# Altium schematic symbol library kmilo17pet-LT_OpAmp_LT2000.SchLib: 1710 symbols (part 38 of 75)
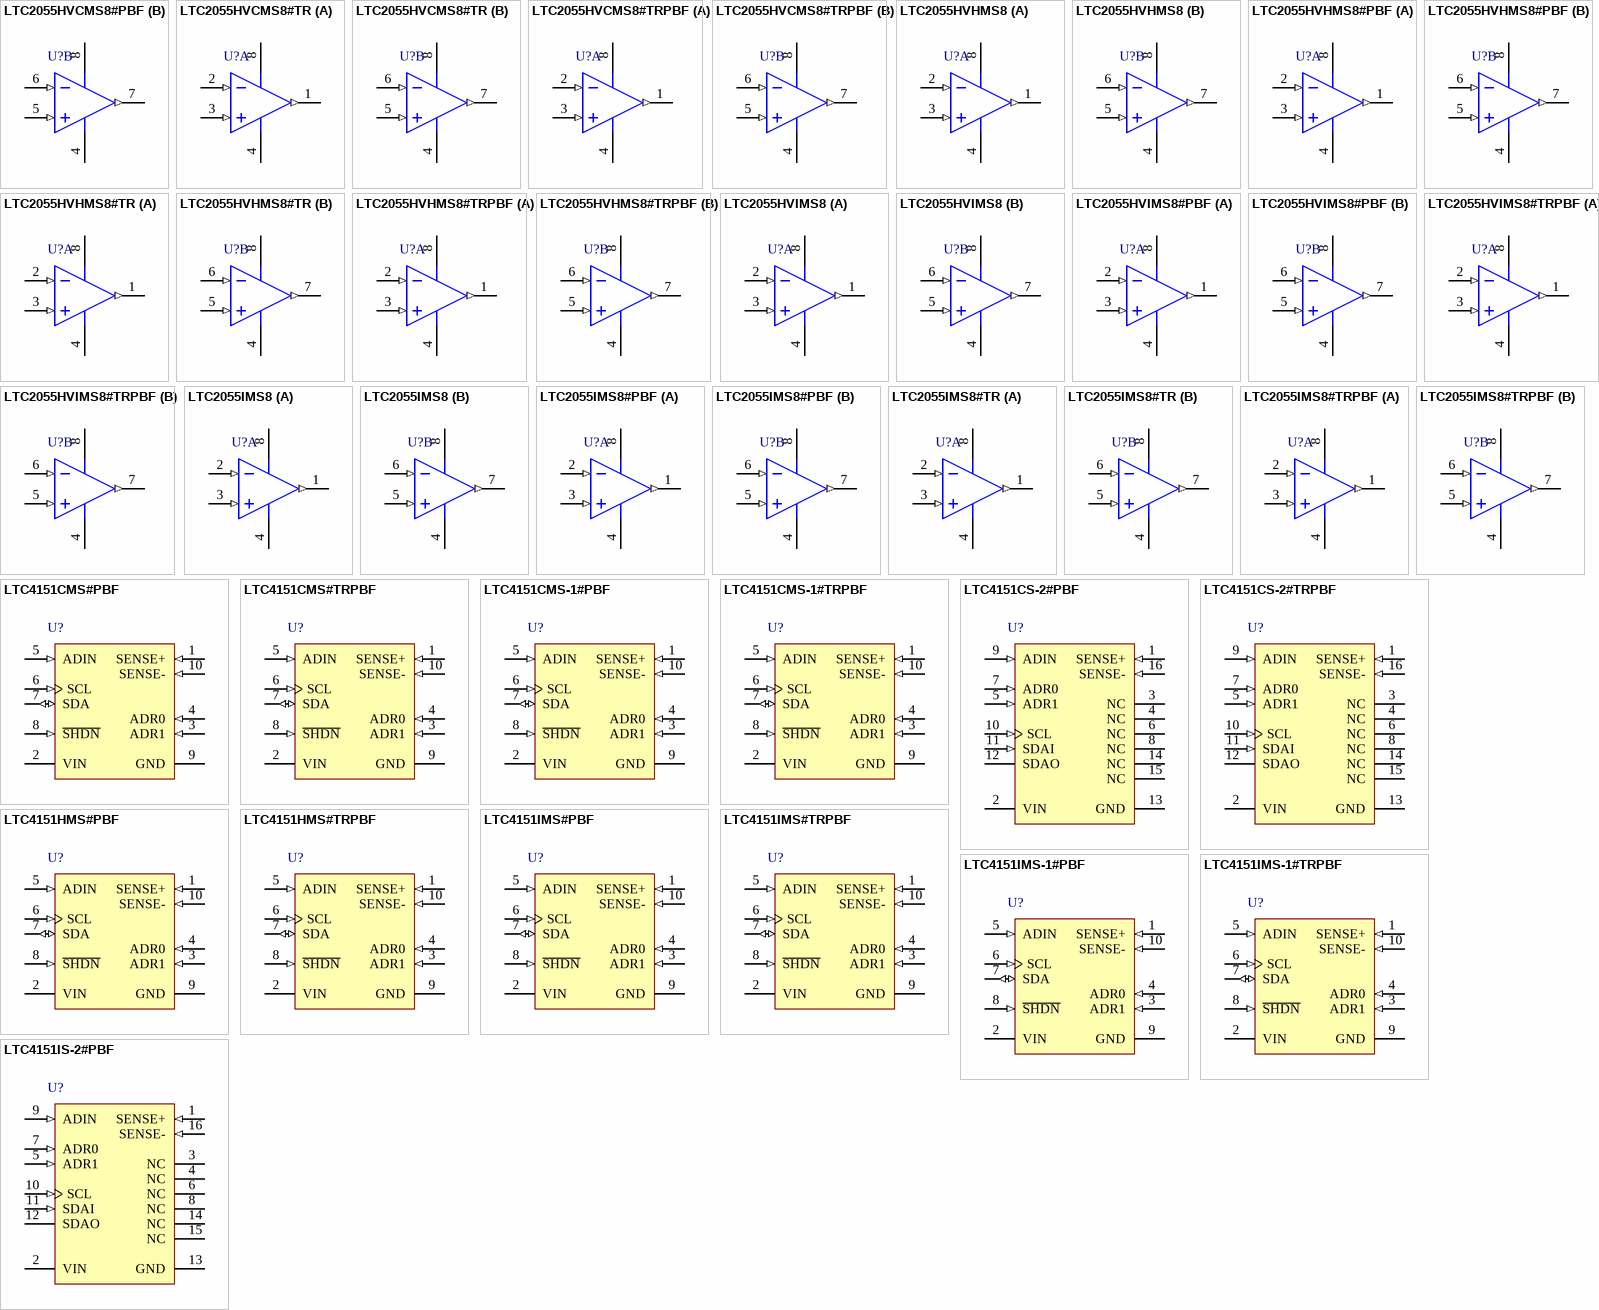
[diagram p117: symbols LTC2055HVCMS8#PBF to LTC4151IS-2#PBF]

## LTC2055IMS8
designator U?
Dual Channel, Micropower Zero-Drift Operational Amplifier, 0.5 MHz Typical GBW, 0.5 V/us Typical SR, 2.7 to 6 V, 8-Pin SOP (MS8-8), Industrial; Linear Technology Part Number: LTC2055; Manufacturer: Linear Technology; PartNumber: LTC2055IMS8; Channels (#): 2; GBW (MHz) Typical: 0.5; Is (mA) Typical: 0.135; Vos (mV) Typical: 0.0005; Vs Max (V): 6; Vs Min (V): 2.7; DatasheetVersion: Rev. C; PackageVersion: Rev G; PackageReference: LT-MS8-8; PackageDescription: 8-Lead Plastic Small Outline, Body 3.9 x 4.9 mm, Pitch 1.27 mm; Supplier 1: Digi-Key; Supplier Part Number 1: LTC2055IMS8-ND; SR (V/us) Typical: 0.5; Type: ZD; Mounting Technology: Surface Mount; ComponentLink1Description: Manufacturer URL; ComponentLink1URL: http://www.linear.com/; ComponentLink2Description: Datasheet; ComponentLink2URL: http://cds.linear.com/docs/en/datasheet/20545fc.pdf; ComponentLink3Description: Package Specification; ComponentLink3URL: http://cds.linear.com/docs/en/packaging/05081610_G_SO8.pdf
footprint LT-MS8-8_N (SOP, 8-Leads, Body 3x3mm, Pitch 0.65mm, IPC Medium Density)
footprint LT-MS8-8_L (SOP, 8-Leads, Body 3x3mm, Pitch 0.65mm, IPC High Density)
footprint LT-MS8-8_M (SOP, 8-Leads, Body 3x3mm, Pitch 0.65mm, IPC Low Density)
pins on every part: 4 V- (power), 8 V+ (power)
part A pins: 1 OUT A (out), 2 -IN A (in), 3 +IN A (in)
part B pins: 5 +IN B (in), 6 -IN B (in), 7 OUT B (out)

## LTC2055IMS8#PBF
designator U?
Dual Channel, Micropower Zero-Drift Operational Amplifier, 0.5 MHz Typical GBW, 0.5 V/us Typical SR, 2.7 to 6 V, 8-Pin SOP (MS8-8), Industrial, Pb-Free; Linear Technology Part Number: LTC2055; Manufacturer: Linear Technology; PartNumber: LTC2055IMS8#PBF; Channels (#): 2; GBW (MHz) Typical: 0.5; Is (mA) Typical: 0.135; Vos (mV) Typical: 0.0005; Vs Max (V): 6; Vs Min (V): 2.7; DatasheetVersion: Rev. C; PackageVersion: Rev G; PackageReference: LT-MS8-8; PackageDescription: 8-Lead Plastic Small Outline, Body 3.9 x 4.9 mm, Pitch 1.27 mm; Supplier 1: Digi-Key; Supplier Part Number 1: LTC2055IMS8#PBF-ND; Supplier 2: Farnell; Supplier Part Number 2: 2294739; Supplier 3: Newark; Supplier Part Number 3: 56M4804; RoHS: Pb-Free; SR (V/us) Typical: 0.5; Type: ZD; Mounting Technology: Surface Mount; ComponentLink1Description: Manufacturer URL; ComponentLink1URL: http://www.linear.com/; ComponentLink2Description: Datasheet; ComponentLink2URL: http://cds.linear.com/docs/en/datasheet/20545fc.pdf; ComponentLink3Description: Package Specification; ComponentLink3URL: http://cds.linear.com/docs/en/packaging/05081610_G_SO8.pdf
footprint LT-MS8-8_N (SOP, 8-Leads, Body 3x3mm, Pitch 0.65mm, IPC Medium Density)
footprint LT-MS8-8_L (SOP, 8-Leads, Body 3x3mm, Pitch 0.65mm, IPC High Density)
footprint LT-MS8-8_M (SOP, 8-Leads, Body 3x3mm, Pitch 0.65mm, IPC Low Density)
pins on every part: 4 V- (power), 8 V+ (power)
part A pins: 1 OUT A (out), 2 -IN A (in), 3 +IN A (in)
part B pins: 5 +IN B (in), 6 -IN B (in), 7 OUT B (out)

## LTC2055IMS8#TR
designator U?
Dual Channel, Micropower Zero-Drift Operational Amplifier, 0.5 MHz Typical GBW, 0.5 V/us Typical SR, 2.7 to 6 V, 8-Pin SOP (MS8-8), Industrial, Reel; Linear Technology Part Number: LTC2055; Manufacturer: Linear Technology; PartNumber: LTC2055IMS8#TR; Channels (#): 2; GBW (MHz) Typical: 0.5; Is (mA) Typical: 0.135; Vos (mV) Typical: 0.0005; Vs Max (V): 6; Vs Min (V): 2.7; DatasheetVersion: Rev. C; PackageVersion: Rev G; PackageReference: LT-MS8-8; PackageDescription: 8-Lead Plastic Small Outline, Body 3.9 x 4.9 mm, Pitch 1.27 mm; Supplier 1: Digi-Key; Supplier Part Number 1: LTC2055IMS8#TR-ND; Packing: Reel; SR (V/us) Typical: 0.5; Type: ZD; Mounting Technology: Surface Mount; ComponentLink1Description: Manufacturer URL; ComponentLink1URL: http://www.linear.com/; ComponentLink2Description: Datasheet; ComponentLink2URL: http://cds.linear.com/docs/en/datasheet/20545fc.pdf; ComponentLink3Description: Package Specification; ComponentLink3URL: http://cds.linear.com/docs/en/packaging/05081610_G_SO8.pdf
footprint LT-MS8-8_N (SOP, 8-Leads, Body 3x3mm, Pitch 0.65mm, IPC Medium Density)
footprint LT-MS8-8_L (SOP, 8-Leads, Body 3x3mm, Pitch 0.65mm, IPC High Density)
footprint LT-MS8-8_M (SOP, 8-Leads, Body 3x3mm, Pitch 0.65mm, IPC Low Density)
pins on every part: 4 V- (power), 8 V+ (power)
part A pins: 1 OUT A (out), 2 -IN A (in), 3 +IN A (in)
part B pins: 5 +IN B (in), 6 -IN B (in), 7 OUT B (out)

## LTC2055IMS8#TRPBF
designator U?
Dual Channel, Micropower Zero-Drift Operational Amplifier, 0.5 MHz Typical GBW, 0.5 V/us Typical SR, 2.7 to 6 V, 8-Pin SOP (MS8-8), Industrial, Pb-Free, Reel; Linear Technology Part Number: LTC2055; Manufacturer: Linear Technology; PartNumber: LTC2055IMS8#TRPBF; Channels (#): 2; GBW (MHz) Typical: 0.5; Is (mA) Typical: 0.135; Vos (mV) Typical: 0.0005; Vs Max (V): 6; Vs Min (V): 2.7; DatasheetVersion: Rev. C; PackageVersion: Rev G; PackageReference: LT-MS8-8; PackageDescription: 8-Lead Plastic Small Outline, Body 3.9 x 4.9 mm, Pitch 1.27 mm; Supplier 1: Digi-Key; Supplier Part Number 1: LTC2055IMS8#TRPBF-ND; Packing: Reel; RoHS: Pb-Free; SR (V/us) Typical: 0.5; Type: ZD; Mounting Technology: Surface Mount; ComponentLink1Description: Manufacturer URL; ComponentLink1URL: http://www.linear.com/; ComponentLink2Description: Datasheet; ComponentLink2URL: http://cds.linear.com/docs/en/datasheet/20545fc.pdf; ComponentLink3Description: Package Specification; ComponentLink3URL: http://cds.linear.com/docs/en/packaging/05081610_G_SO8.pdf
footprint LT-MS8-8_N (SOP, 8-Leads, Body 3x3mm, Pitch 0.65mm, IPC Medium Density)
footprint LT-MS8-8_L (SOP, 8-Leads, Body 3x3mm, Pitch 0.65mm, IPC High Density)
footprint LT-MS8-8_M (SOP, 8-Leads, Body 3x3mm, Pitch 0.65mm, IPC Low Density)
pins on every part: 4 V- (power), 8 V+ (power)
part A pins: 1 OUT A (out), 2 -IN A (in), 3 +IN A (in)
part B pins: 5 +IN B (in), 6 -IN B (in), 7 OUT B (out)

## LTC4151CMS#PBF
designator U?
Single Channel, High Voltage I2C Current and Voltage Monitor Operational Amplifier, 7 to 80 V, 10-Pin SOP (MS-10), Commercial, Pb-Free; Linear Technology Part Number: LTC4151; Manufacturer: Linear Technology; PartNumber: LTC4151CMS#PBF; Channels (#): 1; Is (mA) Typical: 1.2; Vs Max (V): 80; Vs Min (V): 7; DatasheetVersion: Rev. D; PackageVersion: Rev E; PackageReference: LT-MS-10; PackageDescription: 10-Lead Plastic MSOP, Body 3 x 3 mm, Pitch 0.5 mm; Supplier 1: Digi-Key; Supplier Part Number 1: LTC4151CMS#PBF-ND; Supplier 2: Farnell; Supplier Part Number 2: 2295458; Supplier 3: Newark; Supplier Part Number 3: 79M3584; RoHS: Pb-Free; Type: CSA; Mounting Technology: Surface Mount; ComponentLink1Description: Manufacturer URL; ComponentLink1URL: http://www.linear.com/; ComponentLink2Description: Datasheet; ComponentLink2URL: http://cds.linear.com/docs/en/datasheet/4151fd.pdf; ComponentLink3Description: Package Specification; ComponentLink3URL: http://cds.linear.com/docs/en/packaging/MSOP_10_05-08-1661.pdf
footprint LT-MS-10_N (SOP, 10-Leads, Body 3x3mm, Pitch 0.50mm, IPC Medium Density)
footprint LT-MS-10_L (SOP, 10-Leads, Body 3x3mm, Pitch 0.50mm, IPC High Density)
footprint LT-MS-10_M (SOP, 10-Leads, Body 3x3mm, Pitch 0.50mm, IPC Low Density)
pins: 1 SENSE+ (in) "Kelvin Sense of the VIN Pin.", 2 VIN (power) "Supply Voltage Input. Accepts 7V to 80V. The voltage at this pin is monitored by the onboard ADC with a fullscale input range of 102.4V. SENSE+ must be connected  to VIN for proper ADC readout.", 3 ADR1 (in) "I2C Device Address Inputs. Connecting  ADR1 and ADR0 to VIN, GND or leaving the pins open  configures one of nine possible addresses.", 4 ADR0 (in) "I2C Device Address Inputs. Connecting  ADR1 and ADR0 to VIN, GND or leaving the pins open  configures one of nine possible addresses.", 5 ADIN (in) "ADC Input. The onboard ADC measures voltage  range between 0V and 2.048V. Tie to GND if unused.", 6 SCL (in) "I2C Bus Clock Input. Data is shifted in and out at  the SDA pin on rising edges of SCL. This pin is driven  by an open-collector output from a master controller. An  external pull-up resistor or current source is required (See Datasheet)", 7 SDA (io) "I2C Bus Data Input/Output. Used  for shifting in address, command or data bits and sending  out data. An external pull-up resistor or current source  is required and can be placed between SDA and VIN.   The voltage at SDA is (See Datasheet)", 8 ~{SHDN} (in) "Shutdown Input. Internally pulled  up to 6.3V. Pull this pin below 1V to force the LTC4151  into shutdown mode. Leave this pin open if unused.", 9 GND (power) "Device Ground.", 10 SENSE- (in) "High Side Current Sense Input. Connect an  external sense resistor between SENSE+  and SENSE-.  The differential voltage between SENSE+ and SENSE-  is  monitored by the onboard ADC with a full-scale sense  voltage of 81.92mV."

## LTC4151CMS#TRPBF
designator U?
Single Channel, High Voltage I2C Current and Voltage Monitor Operational Amplifier, 7 to 80 V, 10-Pin SOP (MS-10), Commercial, Pb-Free, Reel; Linear Technology Part Number: LTC4151; Manufacturer: Linear Technology; PartNumber: LTC4151CMS#TRPBF; Channels (#): 1; Is (mA) Typical: 1.2; Vs Max (V): 80; Vs Min (V): 7; DatasheetVersion: Rev. D; PackageVersion: Rev E; PackageReference: LT-MS-10; PackageDescription: 10-Lead Plastic MSOP, Body 3 x 3 mm, Pitch 0.5 mm; Supplier 1: Digi-Key; Supplier Part Number 1: LTC4151CMS#TRPBF-ND; Packing: Reel; RoHS: Pb-Free; Type: CSA; Mounting Technology: Surface Mount; ComponentLink1Description: Manufacturer URL; ComponentLink1URL: http://www.linear.com/; ComponentLink2Description: Datasheet; ComponentLink2URL: http://cds.linear.com/docs/en/datasheet/4151fd.pdf; ComponentLink3Description: Package Specification; ComponentLink3URL: http://cds.linear.com/docs/en/packaging/MSOP_10_05-08-1661.pdf
footprint LT-MS-10_N (SOP, 10-Leads, Body 3x3mm, Pitch 0.50mm, IPC Medium Density)
footprint LT-MS-10_L (SOP, 10-Leads, Body 3x3mm, Pitch 0.50mm, IPC High Density)
footprint LT-MS-10_M (SOP, 10-Leads, Body 3x3mm, Pitch 0.50mm, IPC Low Density)
pins: 1 SENSE+ (in) "Kelvin Sense of the VIN Pin.", 2 VIN (power) "Supply Voltage Input. Accepts 7V to 80V. The voltage at this pin is monitored by the onboard ADC with a fullscale input range of 102.4V. SENSE+ must be connected  to VIN for proper ADC readout.", 3 ADR1 (in) "I2C Device Address Inputs. Connecting  ADR1 and ADR0 to VIN, GND or leaving the pins open  configures one of nine possible addresses.", 4 ADR0 (in) "I2C Device Address Inputs. Connecting  ADR1 and ADR0 to VIN, GND or leaving the pins open  configures one of nine possible addresses.", 5 ADIN (in) "ADC Input. The onboard ADC measures voltage  range between 0V and 2.048V. Tie to GND if unused.", 6 SCL (in) "I2C Bus Clock Input. Data is shifted in and out at  the SDA pin on rising edges of SCL. This pin is driven  by an open-collector output from a master controller. An  external pull-up resistor or current source is required (See Datasheet)", 7 SDA (io) "I2C Bus Data Input/Output. Used  for shifting in address, command or data bits and sending  out data. An external pull-up resistor or current source  is required and can be placed between SDA and VIN.   The voltage at SDA is (See Datasheet)", 8 ~{SHDN} (in) "Shutdown Input. Internally pulled  up to 6.3V. Pull this pin below 1V to force the LTC4151  into shutdown mode. Leave this pin open if unused.", 9 GND (power) "Device Ground.", 10 SENSE- (in) "High Side Current Sense Input. Connect an  external sense resistor between SENSE+  and SENSE-.  The differential voltage between SENSE+ and SENSE-  is  monitored by the onboard ADC with a full-scale sense  voltage of 81.92mV."

## LTC4151CMS-1#PBF
designator U?
Single Channel, High Voltage I2C Current and Voltage Monitor Operational Amplifier, 7 to 80 V, 10-Pin SOP (MS-10), Commercial, Pb-Free; Linear Technology Part Number: LTC4151; Manufacturer: Linear Technology; PartNumber: LTC4151CMS-1#PBF; Channels (#): 1; Is (mA) Typical: 1.2; Vs Max (V): 80; Vs Min (V): 7; DatasheetVersion: Rev. D; PackageVersion: Rev E; PackageReference: LT-MS-10; PackageDescription: 10-Lead Plastic MSOP, Body 3 x 3 mm, Pitch 0.5 mm; Supplier 1: Digi-Key; Supplier Part Number 1: LTC4151CMS-1#PBF-ND; Supplier 2: Farnell; Supplier Part Number 2: 2295459; Supplier 3: Newark; Supplier Part Number 3: 79M3582; RoHS: Pb-Free; Type: CSA; Mounting Technology: Surface Mount; ComponentLink1Description: Manufacturer URL; ComponentLink1URL: http://www.linear.com/; ComponentLink2Description: Datasheet; ComponentLink2URL: http://cds.linear.com/docs/en/datasheet/4151fd.pdf; ComponentLink3Description: Package Specification; ComponentLink3URL: http://cds.linear.com/docs/en/packaging/MSOP_10_05-08-1661.pdf
footprint LT-MS-10_N (SOP, 10-Leads, Body 3x3mm, Pitch 0.50mm, IPC Medium Density)
footprint LT-MS-10_L (SOP, 10-Leads, Body 3x3mm, Pitch 0.50mm, IPC High Density)
footprint LT-MS-10_M (SOP, 10-Leads, Body 3x3mm, Pitch 0.50mm, IPC Low Density)
pins: 1 SENSE+ (in) "Kelvin Sense of the VIN Pin.", 2 VIN (power) "Supply Voltage Input. Accepts 7V to 80V. The voltage at this pin is monitored by the onboard ADC with a fullscale input range of 102.4V. SENSE+ must be connected  to VIN for proper ADC readout.", 3 ADR1 (in) "I2C Device Address Inputs. Connecting  ADR1 and ADR0 to VIN, GND or leaving the pins open  configures one of nine possible addresses.", 4 ADR0 (in) "I2C Device Address Inputs. Connecting  ADR1 and ADR0 to VIN, GND or leaving the pins open  configures one of nine possible addresses.", 5 ADIN (in) "ADC Input. The onboard ADC measures voltage  range between 0V and 2.048V. Tie to GND if unused.", 6 SCL (in) "I2C Bus Clock Input. Data is shifted in and out at  the SDA pin on rising edges of SCL. This pin is driven  by an open-collector output from a master controller. An  external pull-up resistor or current source is required (See Datasheet)", 7 SDA (io) "I2C Bus Data Input/Output. Used  for shifting in address, command or data bits and sending  out data. An external pull-up resistor or current source  is required and can be placed between SDA and VIN.   The voltage at SDA is (See Datasheet)", 8 ~{SHDN} (in) "Shutdown Input. Internally pulled  up to 6.3V. Pull this pin below 1V to force the LTC4151  into shutdown mode. Leave this pin open if unused.", 9 GND (power) "Device Ground.", 10 SENSE- (in) "High Side Current Sense Input. Connect an  external sense resistor between SENSE+  and SENSE-.  The differential voltage between SENSE+ and SENSE-  is  monitored by the onboard ADC with a full-scale sense  voltage of 81.92mV."

## LTC4151CMS-1#TRPBF
designator U?
Single Channel, High Voltage I2C Current and Voltage Monitor Operational Amplifier, 7 to 80 V, 10-Pin SOP (MS-10), Commercial, Pb-Free, Reel; Linear Technology Part Number: LTC4151; Manufacturer: Linear Technology; PartNumber: LTC4151CMS-1#TRPBF; Channels (#): 1; Is (mA) Typical: 1.2; Vs Max (V): 80; Vs Min (V): 7; DatasheetVersion: Rev. D; PackageVersion: Rev E; PackageReference: LT-MS-10; PackageDescription: 10-Lead Plastic MSOP, Body 3 x 3 mm, Pitch 0.5 mm; Supplier 1: Digi-Key; Supplier Part Number 1: LTC4151CMS-1#TRPBF-ND; Supplier 2: Newark; Supplier Part Number 2: 79M3583; Packing: Reel; RoHS: Pb-Free; Type: CSA; Mounting Technology: Surface Mount; ComponentLink1Description: Manufacturer URL; ComponentLink1URL: http://www.linear.com/; ComponentLink2Description: Datasheet; ComponentLink2URL: http://cds.linear.com/docs/en/datasheet/4151fd.pdf; ComponentLink3Description: Package Specification; ComponentLink3URL: http://cds.linear.com/docs/en/packaging/MSOP_10_05-08-1661.pdf
footprint LT-MS-10_N (SOP, 10-Leads, Body 3x3mm, Pitch 0.50mm, IPC Medium Density)
footprint LT-MS-10_L (SOP, 10-Leads, Body 3x3mm, Pitch 0.50mm, IPC High Density)
footprint LT-MS-10_M (SOP, 10-Leads, Body 3x3mm, Pitch 0.50mm, IPC Low Density)
pins: 1 SENSE+ (in) "Kelvin Sense of the VIN Pin.", 2 VIN (power) "Supply Voltage Input. Accepts 7V to 80V. The voltage at this pin is monitored by the onboard ADC with a fullscale input range of 102.4V. SENSE+ must be connected  to VIN for proper ADC readout.", 3 ADR1 (in) "I2C Device Address Inputs. Connecting  ADR1 and ADR0 to VIN, GND or leaving the pins open  configures one of nine possible addresses.", 4 ADR0 (in) "I2C Device Address Inputs. Connecting  ADR1 and ADR0 to VIN, GND or leaving the pins open  configures one of nine possible addresses.", 5 ADIN (in) "ADC Input. The onboard ADC measures voltage  range between 0V and 2.048V. Tie to GND if unused.", 6 SCL (in) "I2C Bus Clock Input. Data is shifted in and out at  the SDA pin on rising edges of SCL. This pin is driven  by an open-collector output from a master controller. An  external pull-up resistor or current source is required (See Datasheet)", 7 SDA (io) "I2C Bus Data Input/Output. Used  for shifting in address, command or data bits and sending  out data. An external pull-up resistor or current source  is required and can be placed between SDA and VIN.   The voltage at SDA is (See Datasheet)", 8 ~{SHDN} (in) "Shutdown Input. Internally pulled  up to 6.3V. Pull this pin below 1V to force the LTC4151  into shutdown mode. Leave this pin open if unused.", 9 GND (power) "Device Ground.", 10 SENSE- (in) "High Side Current Sense Input. Connect an  external sense resistor between SENSE+  and SENSE-.  The differential voltage between SENSE+ and SENSE-  is  monitored by the onboard ADC with a full-scale sense  voltage of 81.92mV."

## LTC4151CS-2#PBF
designator U?
Single Channel, High Voltage I2C Current and Voltage Monitor Operational Amplifier, 7 to 80 V, 16-Pin SOP (S-16), Commercial, Pb-Free; Linear Technology Part Number: LTC4151; Manufacturer: Linear Technology; PartNumber: LTC4151CS-2#PBF; Channels (#): 1; Is (mA) Typical: 1.2; Vs Max (V): 80; Vs Min (V): 7; DatasheetVersion: Rev. D; PackageVersion: Rev G; PackageReference: LT-S-16; PackageDescription: 16-Lead Plastic Small Outline, Body 9.9 x 3.9 mm, Pitch 1.27 mm; Supplier 1: Digi-Key; Supplier Part Number 1: LTC4151CS-2#PBF-ND; RoHS: Pb-Free; Type: CSA; Mounting Technology: Surface Mount; ComponentLink1Description: Manufacturer URL; ComponentLink1URL: http://www.linear.com/; ComponentLink2Description: Datasheet; ComponentLink2URL: http://cds.linear.com/docs/en/datasheet/4151fd.pdf; ComponentLink3Description: Package Specification; ComponentLink3URL: http://cds.linear.com/docs/en/packaging/S16%2005-08-1610%20Rev%20G.pdf
footprint LT-S-16_N (SOP, 16-Leads, Body 9.9x3.9mm, Pitch 1.27mm, IPC Medium Density)
footprint LT-S-16_L (SOP, 16-Leads, Body 9.9x3.9mm, Pitch 1.27mm, IPC High Density)
footprint LT-S-16_M (SOP, 16-Leads, Body 9.9x3.9mm, Pitch 1.27mm, IPC Low Density)
pins: 1 SENSE+ (in) "Kelvin Sense of the VIN Pin. See Figure 10 for recommended Kelvin connection.", 2 VIN (power) "Supply Voltage Input. Accepts 7V to 80V. The voltage at this pin is monitored by the onboard ADC with a fullscale input range of 102.4V. SENSE+ must be connected to VIN for proper ADC readout.", 3 NC, 4 NC, 5 ADR1 (in) "I2C Device Address Inputs. Connecting ADR1 and ADR0 to VIN, GND or leaving the pins open configures one of nine possible addresses. See Table 1 in the Applications Information section for details.", 6 NC, 7 ADR0 (in) "I2C Device Address Inputs. Connecting ADR1 and ADR0 to VIN, GND or leaving the pins open configures one of nine possible addresses. See Table 1 in the Applications Information section for details.", 8 NC, 9 ADIN (in) "ADC Input. The onboard ADC measures voltage range between 0V and 2.048V. Tie to GND if unused.", 10 SCL (in) "This pin is driven by an open-collector output from a master controller. An external pull-up resistor or current source is required and can be placed between SCL and VIN. The voltage at SCL is internally clamped to 6V (5.5V (See Datasheet)", 11 SDAI (in) "I2C Bus Data Input. Used for shifting in address, command, data, and SDAO acknowledge bits. This pin is driven by an open-collector output from a master controller. An external pull-up resistor or current source is required (See Datasheet)", 12 SDAO (oc) "Serial Bus Data Output.Open drain output used for sending data back to the master controller or acknowledging a write operation. Normally tied to SDAI to form the SDA line. An external pull-up resistor or current source is (See Datasheet)", 13 GND (power) "Device Ground.", 14 NC, 15 NC, 16 SENSE- (in) "High Side Current Sense Input. Connect an external sense resistor between SENSE+ and SENSE-. The differential voltage between SENSE+ and SENSE- is monitored by the onboard ADC with a full-scale sense voltage of 81.92mV."

## LTC4151CS-2#TRPBF
designator U?
Single Channel, High Voltage I2C Current and Voltage Monitor Operational Amplifier, 7 to 80 V, 16-Pin SOP (S-16), Commercial, Pb-Free, Reel; Linear Technology Part Number: LTC4151; Manufacturer: Linear Technology; PartNumber: LTC4151CS-2#TRPBF; Channels (#): 1; Is (mA) Typical: 1.2; Vs Max (V): 80; Vs Min (V): 7; DatasheetVersion: Rev. D; PackageVersion: Rev G; PackageReference: LT-S-16; PackageDescription: 16-Lead Plastic Small Outline, Body 9.9 x 3.9 mm, Pitch 1.27 mm; Supplier 1: Digi-Key; Supplier Part Number 1: LTC4151CS-2#TRPBF-ND; Packing: Reel; RoHS: Pb-Free; Type: CSA; Mounting Technology: Surface Mount; ComponentLink1Description: Manufacturer URL; ComponentLink1URL: http://www.linear.com/; ComponentLink2Description: Datasheet; ComponentLink2URL: http://cds.linear.com/docs/en/datasheet/4151fd.pdf; ComponentLink3Description: Package Specification; ComponentLink3URL: http://cds.linear.com/docs/en/packaging/S16%2005-08-1610%20Rev%20G.pdf
footprint LT-S-16_N (SOP, 16-Leads, Body 9.9x3.9mm, Pitch 1.27mm, IPC Medium Density)
footprint LT-S-16_L (SOP, 16-Leads, Body 9.9x3.9mm, Pitch 1.27mm, IPC High Density)
footprint LT-S-16_M (SOP, 16-Leads, Body 9.9x3.9mm, Pitch 1.27mm, IPC Low Density)
pins: 1 SENSE+ (in) "Kelvin Sense of the VIN Pin. See Figure 10 for recommended Kelvin connection.", 2 VIN (power) "Supply Voltage Input. Accepts 7V to 80V. The voltage at this pin is monitored by the onboard ADC with a fullscale input range of 102.4V. SENSE+ must be connected to VIN for proper ADC readout.", 3 NC, 4 NC, 5 ADR1 (in) "I2C Device Address Inputs. Connecting ADR1 and ADR0 to VIN, GND or leaving the pins open configures one of nine possible addresses. See Table 1 in the Applications Information section for details.", 6 NC, 7 ADR0 (in) "I2C Device Address Inputs. Connecting ADR1 and ADR0 to VIN, GND or leaving the pins open configures one of nine possible addresses. See Table 1 in the Applications Information section for details.", 8 NC, 9 ADIN (in) "ADC Input. The onboard ADC measures voltage range between 0V and 2.048V. Tie to GND if unused.", 10 SCL (in) "This pin is driven by an open-collector output from a master controller. An external pull-up resistor or current source is required and can be placed between SCL and VIN. The voltage at SCL is internally clamped to 6V (5.5V (See Datasheet)", 11 SDAI (in) "I2C Bus Data Input. Used for shifting in address, command, data, and SDAO acknowledge bits. This pin is driven by an open-collector output from a master controller. An external pull-up resistor or current source is required (See Datasheet)", 12 SDAO (oc) "Serial Bus Data Output.Open drain output used for sending data back to the master controller or acknowledging a write operation. Normally tied to SDAI to form the SDA line. An external pull-up resistor or current source is (See Datasheet)", 13 GND (power) "Device Ground.", 14 NC, 15 NC, 16 SENSE- (in) "High Side Current Sense Input. Connect an external sense resistor between SENSE+ and SENSE-. The differential voltage between SENSE+ and SENSE- is monitored by the onboard ADC with a full-scale sense voltage of 81.92mV."

## LTC4151HMS#PBF
designator U?
Single Channel, High Voltage I2C Current and Voltage Monitor Operational Amplifier, 7 to 80 V, 10-Pin SOP (MS-10), High Temperature / Automotive, Pb-Free; Linear Technology Part Number: LTC4151; Manufacturer: Linear Technology; PartNumber: LTC4151HMS#PBF; Channels (#): 1; Is (mA) Typical: 1.2; Vs Max (V): 80; Vs Min (V): 7; DatasheetVersion: Rev. D; PackageVersion: Rev E; PackageReference: LT-MS-10; PackageDescription: 10-Lead Plastic MSOP, Body 3 x 3 mm, Pitch 0.5 mm; Supplier 1: Digi-Key; Supplier Part Number 1: LTC4151HMS#PBF-ND; Supplier 2: Newark; Supplier Part Number 2: 27T4221; RoHS: Pb-Free; Type: CSA; Mounting Technology: Surface Mount; ComponentLink1Description: Manufacturer URL; ComponentLink1URL: http://www.linear.com/; ComponentLink2Description: Datasheet; ComponentLink2URL: http://cds.linear.com/docs/en/datasheet/4151fd.pdf; ComponentLink3Description: Package Specification; ComponentLink3URL: http://cds.linear.com/docs/en/packaging/MSOP_10_05-08-1661.pdf
footprint LT-MS-10_N (SOP, 10-Leads, Body 3x3mm, Pitch 0.50mm, IPC Medium Density)
footprint LT-MS-10_L (SOP, 10-Leads, Body 3x3mm, Pitch 0.50mm, IPC High Density)
footprint LT-MS-10_M (SOP, 10-Leads, Body 3x3mm, Pitch 0.50mm, IPC Low Density)
pins: 1 SENSE+ (in) "Kelvin Sense of the VIN Pin.", 2 VIN (power) "Supply Voltage Input. Accepts 7V to 80V. The voltage at this pin is monitored by the onboard ADC with a fullscale input range of 102.4V. SENSE+ must be connected  to VIN for proper ADC readout.", 3 ADR1 (in) "I2C Device Address Inputs. Connecting  ADR1 and ADR0 to VIN, GND or leaving the pins open  configures one of nine possible addresses.", 4 ADR0 (in) "I2C Device Address Inputs. Connecting  ADR1 and ADR0 to VIN, GND or leaving the pins open  configures one of nine possible addresses.", 5 ADIN (in) "ADC Input. The onboard ADC measures voltage  range between 0V and 2.048V. Tie to GND if unused.", 6 SCL (in) "I2C Bus Clock Input. Data is shifted in and out at  the SDA pin on rising edges of SCL. This pin is driven  by an open-collector output from a master controller. An  external pull-up resistor or current source is required (See Datasheet)", 7 SDA (io) "I2C Bus Data Input/Output. Used  for shifting in address, command or data bits and sending  out data. An external pull-up resistor or current source  is required and can be placed between SDA and VIN.   The voltage at SDA is (See Datasheet)", 8 ~{SHDN} (in) "Shutdown Input. Internally pulled  up to 6.3V. Pull this pin below 1V to force the LTC4151  into shutdown mode. Leave this pin open if unused.", 9 GND (power) "Device Ground.", 10 SENSE- (in) "High Side Current Sense Input. Connect an  external sense resistor between SENSE+  and SENSE-.  The differential voltage between SENSE+ and SENSE-  is  monitored by the onboard ADC with a full-scale sense  voltage of 81.92mV."

## LTC4151HMS#TRPBF
designator U?
Single Channel, High Voltage I2C Current and Voltage Monitor Operational Amplifier, 7 to 80 V, 10-Pin SOP (MS-10), High Temperature / Automotive, Pb-Free, Reel; Linear Technology Part Number: LTC4151; Manufacturer: Linear Technology; PartNumber: LTC4151HMS#TRPBF; Channels (#): 1; Is (mA) Typical: 1.2; Vs Max (V): 80; Vs Min (V): 7; DatasheetVersion: Rev. D; PackageVersion: Rev E; PackageReference: LT-MS-10; PackageDescription: 10-Lead Plastic MSOP, Body 3 x 3 mm, Pitch 0.5 mm; Supplier 1: Digi-Key; Supplier Part Number 1: LTC4151HMS#TRPBF-ND; Supplier 2: Newark; Supplier Part Number 2: 27T4222; Packing: Reel; RoHS: Pb-Free; Type: CSA; Mounting Technology: Surface Mount; ComponentLink1Description: Manufacturer URL; ComponentLink1URL: http://www.linear.com/; ComponentLink2Description: Datasheet; ComponentLink2URL: http://cds.linear.com/docs/en/datasheet/4151fd.pdf; ComponentLink3Description: Package Specification; ComponentLink3URL: http://cds.linear.com/docs/en/packaging/MSOP_10_05-08-1661.pdf
footprint LT-MS-10_N (SOP, 10-Leads, Body 3x3mm, Pitch 0.50mm, IPC Medium Density)
footprint LT-MS-10_L (SOP, 10-Leads, Body 3x3mm, Pitch 0.50mm, IPC High Density)
footprint LT-MS-10_M (SOP, 10-Leads, Body 3x3mm, Pitch 0.50mm, IPC Low Density)
pins: 1 SENSE+ (in) "Kelvin Sense of the VIN Pin.", 2 VIN (power) "Supply Voltage Input. Accepts 7V to 80V. The voltage at this pin is monitored by the onboard ADC with a fullscale input range of 102.4V. SENSE+ must be connected  to VIN for proper ADC readout.", 3 ADR1 (in) "I2C Device Address Inputs. Connecting  ADR1 and ADR0 to VIN, GND or leaving the pins open  configures one of nine possible addresses.", 4 ADR0 (in) "I2C Device Address Inputs. Connecting  ADR1 and ADR0 to VIN, GND or leaving the pins open  configures one of nine possible addresses.", 5 ADIN (in) "ADC Input. The onboard ADC measures voltage  range between 0V and 2.048V. Tie to GND if unused.", 6 SCL (in) "I2C Bus Clock Input. Data is shifted in and out at  the SDA pin on rising edges of SCL. This pin is driven  by an open-collector output from a master controller. An  external pull-up resistor or current source is required (See Datasheet)", 7 SDA (io) "I2C Bus Data Input/Output. Used  for shifting in address, command or data bits and sending  out data. An external pull-up resistor or current source  is required and can be placed between SDA and VIN.   The voltage at SDA is (See Datasheet)", 8 ~{SHDN} (in) "Shutdown Input. Internally pulled  up to 6.3V. Pull this pin below 1V to force the LTC4151  into shutdown mode. Leave this pin open if unused.", 9 GND (power) "Device Ground.", 10 SENSE- (in) "High Side Current Sense Input. Connect an  external sense resistor between SENSE+  and SENSE-.  The differential voltage between SENSE+ and SENSE-  is  monitored by the onboard ADC with a full-scale sense  voltage of 81.92mV."

## LTC4151IMS#PBF
designator U?
Single Channel, High Voltage I2C Current and Voltage Monitor Operational Amplifier, 7 to 80 V, 10-Pin SOP (MS-10), Industrial, Pb-Free; Linear Technology Part Number: LTC4151; Manufacturer: Linear Technology; PartNumber: LTC4151IMS#PBF; Channels (#): 1; Is (mA) Typical: 1.2; Vs Max (V): 80; Vs Min (V): 7; DatasheetVersion: Rev. D; PackageVersion: Rev E; PackageReference: LT-MS-10; PackageDescription: 10-Lead Plastic MSOP, Body 3 x 3 mm, Pitch 0.5 mm; Supplier 1: Digi-Key; Supplier Part Number 1: LTC4151IMS#PBF-ND; Supplier 2: Newark; Supplier Part Number 2: 79M3592; RoHS: Pb-Free; Type: CSA; Mounting Technology: Surface Mount; ComponentLink1Description: Manufacturer URL; ComponentLink1URL: http://www.linear.com/; ComponentLink2Description: Datasheet; ComponentLink2URL: http://cds.linear.com/docs/en/datasheet/4151fd.pdf; ComponentLink3Description: Package Specification; ComponentLink3URL: http://cds.linear.com/docs/en/packaging/MSOP_10_05-08-1661.pdf
footprint LT-MS-10_N (SOP, 10-Leads, Body 3x3mm, Pitch 0.50mm, IPC Medium Density)
footprint LT-MS-10_L (SOP, 10-Leads, Body 3x3mm, Pitch 0.50mm, IPC High Density)
footprint LT-MS-10_M (SOP, 10-Leads, Body 3x3mm, Pitch 0.50mm, IPC Low Density)
pins: 1 SENSE+ (in) "Kelvin Sense of the VIN Pin.", 2 VIN (power) "Supply Voltage Input. Accepts 7V to 80V. The voltage at this pin is monitored by the onboard ADC with a fullscale input range of 102.4V. SENSE+ must be connected  to VIN for proper ADC readout.", 3 ADR1 (in) "I2C Device Address Inputs. Connecting  ADR1 and ADR0 to VIN, GND or leaving the pins open  configures one of nine possible addresses.", 4 ADR0 (in) "I2C Device Address Inputs. Connecting  ADR1 and ADR0 to VIN, GND or leaving the pins open  configures one of nine possible addresses.", 5 ADIN (in) "ADC Input. The onboard ADC measures voltage  range between 0V and 2.048V. Tie to GND if unused.", 6 SCL (in) "I2C Bus Clock Input. Data is shifted in and out at  the SDA pin on rising edges of SCL. This pin is driven  by an open-collector output from a master controller. An  external pull-up resistor or current source is required (See Datasheet)", 7 SDA (io) "I2C Bus Data Input/Output. Used  for shifting in address, command or data bits and sending  out data. An external pull-up resistor or current source  is required and can be placed between SDA and VIN.   The voltage at SDA is (See Datasheet)", 8 ~{SHDN} (in) "Shutdown Input. Internally pulled  up to 6.3V. Pull this pin below 1V to force the LTC4151  into shutdown mode. Leave this pin open if unused.", 9 GND (power) "Device Ground.", 10 SENSE- (in) "High Side Current Sense Input. Connect an  external sense resistor between SENSE+  and SENSE-.  The differential voltage between SENSE+ and SENSE-  is  monitored by the onboard ADC with a full-scale sense  voltage of 81.92mV."

## LTC4151IMS#TRPBF
designator U?
Single Channel, High Voltage I2C Current and Voltage Monitor Operational Amplifier, 7 to 80 V, 10-Pin SOP (MS-10), Industrial, Pb-Free, Reel; Linear Technology Part Number: LTC4151; Manufacturer: Linear Technology; PartNumber: LTC4151IMS#TRPBF; Channels (#): 1; Is (mA) Typical: 1.2; Vs Max (V): 80; Vs Min (V): 7; DatasheetVersion: Rev. D; PackageVersion: Rev E; PackageReference: LT-MS-10; PackageDescription: 10-Lead Plastic MSOP, Body 3 x 3 mm, Pitch 0.5 mm; Supplier 1: Digi-Key; Supplier Part Number 1: LTC4151IMS#TRPBF-ND; Supplier 2: Newark; Supplier Part Number 2: 79M3593; Packing: Reel; RoHS: Pb-Free; Type: CSA; Mounting Technology: Surface Mount; ComponentLink1Description: Manufacturer URL; ComponentLink1URL: http://www.linear.com/; ComponentLink2Description: Datasheet; ComponentLink2URL: http://cds.linear.com/docs/en/datasheet/4151fd.pdf; ComponentLink3Description: Package Specification; ComponentLink3URL: http://cds.linear.com/docs/en/packaging/MSOP_10_05-08-1661.pdf
footprint LT-MS-10_N (SOP, 10-Leads, Body 3x3mm, Pitch 0.50mm, IPC Medium Density)
footprint LT-MS-10_L (SOP, 10-Leads, Body 3x3mm, Pitch 0.50mm, IPC High Density)
footprint LT-MS-10_M (SOP, 10-Leads, Body 3x3mm, Pitch 0.50mm, IPC Low Density)
pins: 1 SENSE+ (in) "Kelvin Sense of the VIN Pin.", 2 VIN (power) "Supply Voltage Input. Accepts 7V to 80V. The voltage at this pin is monitored by the onboard ADC with a fullscale input range of 102.4V. SENSE+ must be connected  to VIN for proper ADC readout.", 3 ADR1 (in) "I2C Device Address Inputs. Connecting  ADR1 and ADR0 to VIN, GND or leaving the pins open  configures one of nine possible addresses.", 4 ADR0 (in) "I2C Device Address Inputs. Connecting  ADR1 and ADR0 to VIN, GND or leaving the pins open  configures one of nine possible addresses.", 5 ADIN (in) "ADC Input. The onboard ADC measures voltage  range between 0V and 2.048V. Tie to GND if unused.", 6 SCL (in) "I2C Bus Clock Input. Data is shifted in and out at  the SDA pin on rising edges of SCL. This pin is driven  by an open-collector output from a master controller. An  external pull-up resistor or current source is required (See Datasheet)", 7 SDA (io) "I2C Bus Data Input/Output. Used  for shifting in address, command or data bits and sending  out data. An external pull-up resistor or current source  is required and can be placed between SDA and VIN.   The voltage at SDA is (See Datasheet)", 8 ~{SHDN} (in) "Shutdown Input. Internally pulled  up to 6.3V. Pull this pin below 1V to force the LTC4151  into shutdown mode. Leave this pin open if unused.", 9 GND (power) "Device Ground.", 10 SENSE- (in) "High Side Current Sense Input. Connect an  external sense resistor between SENSE+  and SENSE-.  The differential voltage between SENSE+ and SENSE-  is  monitored by the onboard ADC with a full-scale sense  voltage of 81.92mV."

## LTC4151IMS-1#PBF
designator U?
Single Channel, High Voltage I2C Current and Voltage Monitor Operational Amplifier, 7 to 80 V, 10-Pin SOP (MS-10), Industrial, Pb-Free; Linear Technology Part Number: LTC4151; Manufacturer: Linear Technology; PartNumber: LTC4151IMS-1#PBF; Channels (#): 1; Is (mA) Typical: 1.2; Vs Max (V): 80; Vs Min (V): 7; DatasheetVersion: Rev. D; PackageVersion: Rev E; PackageReference: LT-MS-10; PackageDescription: 10-Lead Plastic MSOP, Body 3 x 3 mm, Pitch 0.5 mm; Supplier 1: Digi-Key; Supplier Part Number 1: LTC4151IMS-1#PBF-ND; Supplier 2: Farnell; Supplier Part Number 2: 2295461; Supplier 3: Newark; Supplier Part Number 3: 79M3590; RoHS: Pb-Free; Type: CSA; Mounting Technology: Surface Mount; ComponentLink1Description: Manufacturer URL; ComponentLink1URL: http://www.linear.com/; ComponentLink2Description: Datasheet; ComponentLink2URL: http://cds.linear.com/docs/en/datasheet/4151fd.pdf; ComponentLink3Description: Package Specification; ComponentLink3URL: http://cds.linear.com/docs/en/packaging/MSOP_10_05-08-1661.pdf
footprint LT-MS-10_N (SOP, 10-Leads, Body 3x3mm, Pitch 0.50mm, IPC Medium Density)
footprint LT-MS-10_L (SOP, 10-Leads, Body 3x3mm, Pitch 0.50mm, IPC High Density)
footprint LT-MS-10_M (SOP, 10-Leads, Body 3x3mm, Pitch 0.50mm, IPC Low Density)
pins: 1 SENSE+ (in) "Kelvin Sense of the VIN Pin.", 2 VIN (power) "Supply Voltage Input. Accepts 7V to 80V. The voltage at this pin is monitored by the onboard ADC with a fullscale input range of 102.4V. SENSE+ must be connected  to VIN for proper ADC readout.", 3 ADR1 (in) "I2C Device Address Inputs. Connecting  ADR1 and ADR0 to VIN, GND or leaving the pins open  configures one of nine possible addresses.", 4 ADR0 (in) "I2C Device Address Inputs. Connecting  ADR1 and ADR0 to VIN, GND or leaving the pins open  configures one of nine possible addresses.", 5 ADIN (in) "ADC Input. The onboard ADC measures voltage  range between 0V and 2.048V. Tie to GND if unused.", 6 SCL (in) "I2C Bus Clock Input. Data is shifted in and out at  the SDA pin on rising edges of SCL. This pin is driven  by an open-collector output from a master controller. An  external pull-up resistor or current source is required (See Datasheet)", 7 SDA (io) "I2C Bus Data Input/Output. Used  for shifting in address, command or data bits and sending  out data. An external pull-up resistor or current source  is required and can be placed between SDA and VIN.   The voltage at SDA is (See Datasheet)", 8 ~{SHDN} (in) "Shutdown Input. Internally pulled  up to 6.3V. Pull this pin below 1V to force the LTC4151  into shutdown mode. Leave this pin open if unused.", 9 GND (power) "Device Ground.", 10 SENSE- (in) "High Side Current Sense Input. Connect an  external sense resistor between SENSE+  and SENSE-.  The differential voltage between SENSE+ and SENSE-  is  monitored by the onboard ADC with a full-scale sense  voltage of 81.92mV."

## LTC4151IMS-1#TRPBF
designator U?
Single Channel, High Voltage I2C Current and Voltage Monitor Operational Amplifier, 7 to 80 V, 10-Pin SOP (MS-10), Industrial, Pb-Free, Reel; Linear Technology Part Number: LTC4151; Manufacturer: Linear Technology; PartNumber: LTC4151IMS-1#TRPBF; Channels (#): 1; Is (mA) Typical: 1.2; Vs Max (V): 80; Vs Min (V): 7; DatasheetVersion: Rev. D; PackageVersion: Rev E; PackageReference: LT-MS-10; PackageDescription: 10-Lead Plastic MSOP, Body 3 x 3 mm, Pitch 0.5 mm; Supplier 1: Digi-Key; Supplier Part Number 1: LTC4151IMS-1#TRPBF-ND; Packing: Reel; RoHS: Pb-Free; Type: CSA; Mounting Technology: Surface Mount; ComponentLink1Description: Manufacturer URL; ComponentLink1URL: http://www.linear.com/; ComponentLink2Description: Datasheet; ComponentLink2URL: http://cds.linear.com/docs/en/datasheet/4151fd.pdf; ComponentLink3Description: Package Specification; ComponentLink3URL: http://cds.linear.com/docs/en/packaging/MSOP_10_05-08-1661.pdf
footprint LT-MS-10_N (SOP, 10-Leads, Body 3x3mm, Pitch 0.50mm, IPC Medium Density)
footprint LT-MS-10_L (SOP, 10-Leads, Body 3x3mm, Pitch 0.50mm, IPC High Density)
footprint LT-MS-10_M (SOP, 10-Leads, Body 3x3mm, Pitch 0.50mm, IPC Low Density)
pins: 1 SENSE+ (in) "Kelvin Sense of the VIN Pin.", 2 VIN (power) "Supply Voltage Input. Accepts 7V to 80V. The voltage at this pin is monitored by the onboard ADC with a fullscale input range of 102.4V. SENSE+ must be connected  to VIN for proper ADC readout.", 3 ADR1 (in) "I2C Device Address Inputs. Connecting  ADR1 and ADR0 to VIN, GND or leaving the pins open  configures one of nine possible addresses.", 4 ADR0 (in) "I2C Device Address Inputs. Connecting  ADR1 and ADR0 to VIN, GND or leaving the pins open  configures one of nine possible addresses.", 5 ADIN (in) "ADC Input. The onboard ADC measures voltage  range between 0V and 2.048V. Tie to GND if unused.", 6 SCL (in) "I2C Bus Clock Input. Data is shifted in and out at  the SDA pin on rising edges of SCL. This pin is driven  by an open-collector output from a master controller. An  external pull-up resistor or current source is required (See Datasheet)", 7 SDA (io) "I2C Bus Data Input/Output. Used  for shifting in address, command or data bits and sending  out data. An external pull-up resistor or current source  is required and can be placed between SDA and VIN.   The voltage at SDA is (See Datasheet)", 8 ~{SHDN} (in) "Shutdown Input. Internally pulled  up to 6.3V. Pull this pin below 1V to force the LTC4151  into shutdown mode. Leave this pin open if unused.", 9 GND (power) "Device Ground.", 10 SENSE- (in) "High Side Current Sense Input. Connect an  external sense resistor between SENSE+  and SENSE-.  The differential voltage between SENSE+ and SENSE-  is  monitored by the onboard ADC with a full-scale sense  voltage of 81.92mV."

## LTC4151IS-2#PBF
designator U?
Single Channel, High Voltage I2C Current and Voltage Monitor Operational Amplifier, 7 to 80 V, 16-Pin SOP (S-16), Industrial, Pb-Free; Linear Technology Part Number: LTC4151; Manufacturer: Linear Technology; PartNumber: LTC4151IS-2#PBF; Channels (#): 1; Is (mA) Typical: 1.2; Vs Max (V): 80; Vs Min (V): 7; DatasheetVersion: Rev. D; PackageVersion: Rev G; PackageReference: LT-S-16; PackageDescription: 16-Lead Plastic Small Outline, Body 9.9 x 3.9 mm, Pitch 1.27 mm; Supplier 1: Digi-Key; Supplier Part Number 1: LTC4151IS-2#PBF-ND; Supplier 2: Newark; Supplier Part Number 2: 72R5707; RoHS: Pb-Free; Type: CSA; Mounting Technology: Surface Mount; ComponentLink1Description: Manufacturer URL; ComponentLink1URL: http://www.linear.com/; ComponentLink2Description: Datasheet; ComponentLink2URL: http://cds.linear.com/docs/en/datasheet/4151fd.pdf; ComponentLink3Description: Package Specification; ComponentLink3URL: http://cds.linear.com/docs/en/packaging/S16%2005-08-1610%20Rev%20G.pdf
footprint LT-S-16_N (SOP, 16-Leads, Body 9.9x3.9mm, Pitch 1.27mm, IPC Medium Density)
footprint LT-S-16_L (SOP, 16-Leads, Body 9.9x3.9mm, Pitch 1.27mm, IPC High Density)
footprint LT-S-16_M (SOP, 16-Leads, Body 9.9x3.9mm, Pitch 1.27mm, IPC Low Density)
pins: 1 SENSE+ (in) "Kelvin Sense of the VIN Pin. See Figure 10 for recommended Kelvin connection.", 2 VIN (power) "Supply Voltage Input. Accepts 7V to 80V. The voltage at this pin is monitored by the onboard ADC with a fullscale input range of 102.4V. SENSE+ must be connected to VIN for proper ADC readout.", 3 NC, 4 NC, 5 ADR1 (in) "I2C Device Address Inputs. Connecting ADR1 and ADR0 to VIN, GND or leaving the pins open configures one of nine possible addresses. See Table 1 in the Applications Information section for details.", 6 NC, 7 ADR0 (in) "I2C Device Address Inputs. Connecting ADR1 and ADR0 to VIN, GND or leaving the pins open configures one of nine possible addresses. See Table 1 in the Applications Information section for details.", 8 NC, 9 ADIN (in) "ADC Input. The onboard ADC measures voltage range between 0V and 2.048V. Tie to GND if unused.", 10 SCL (in) "This pin is driven by an open-collector output from a master controller. An external pull-up resistor or current source is required and can be placed between SCL and VIN. The voltage at SCL is internally clamped to 6V (5.5V (See Datasheet)", 11 SDAI (in) "I2C Bus Data Input. Used for shifting in address, command, data, and SDAO acknowledge bits. This pin is driven by an open-collector output from a master controller. An external pull-up resistor or current source is required (See Datasheet)", 12 SDAO (oc) "Serial Bus Data Output.Open drain output used for sending data back to the master controller or acknowledging a write operation. Normally tied to SDAI to form the SDA line. An external pull-up resistor or current source is (See Datasheet)", 13 GND (power) "Device Ground.", 14 NC, 15 NC, 16 SENSE- (in) "High Side Current Sense Input. Connect an external sense resistor between SENSE+ and SENSE-. The differential voltage between SENSE+ and SENSE- is monitored by the onboard ADC with a full-scale sense voltage of 81.92mV."

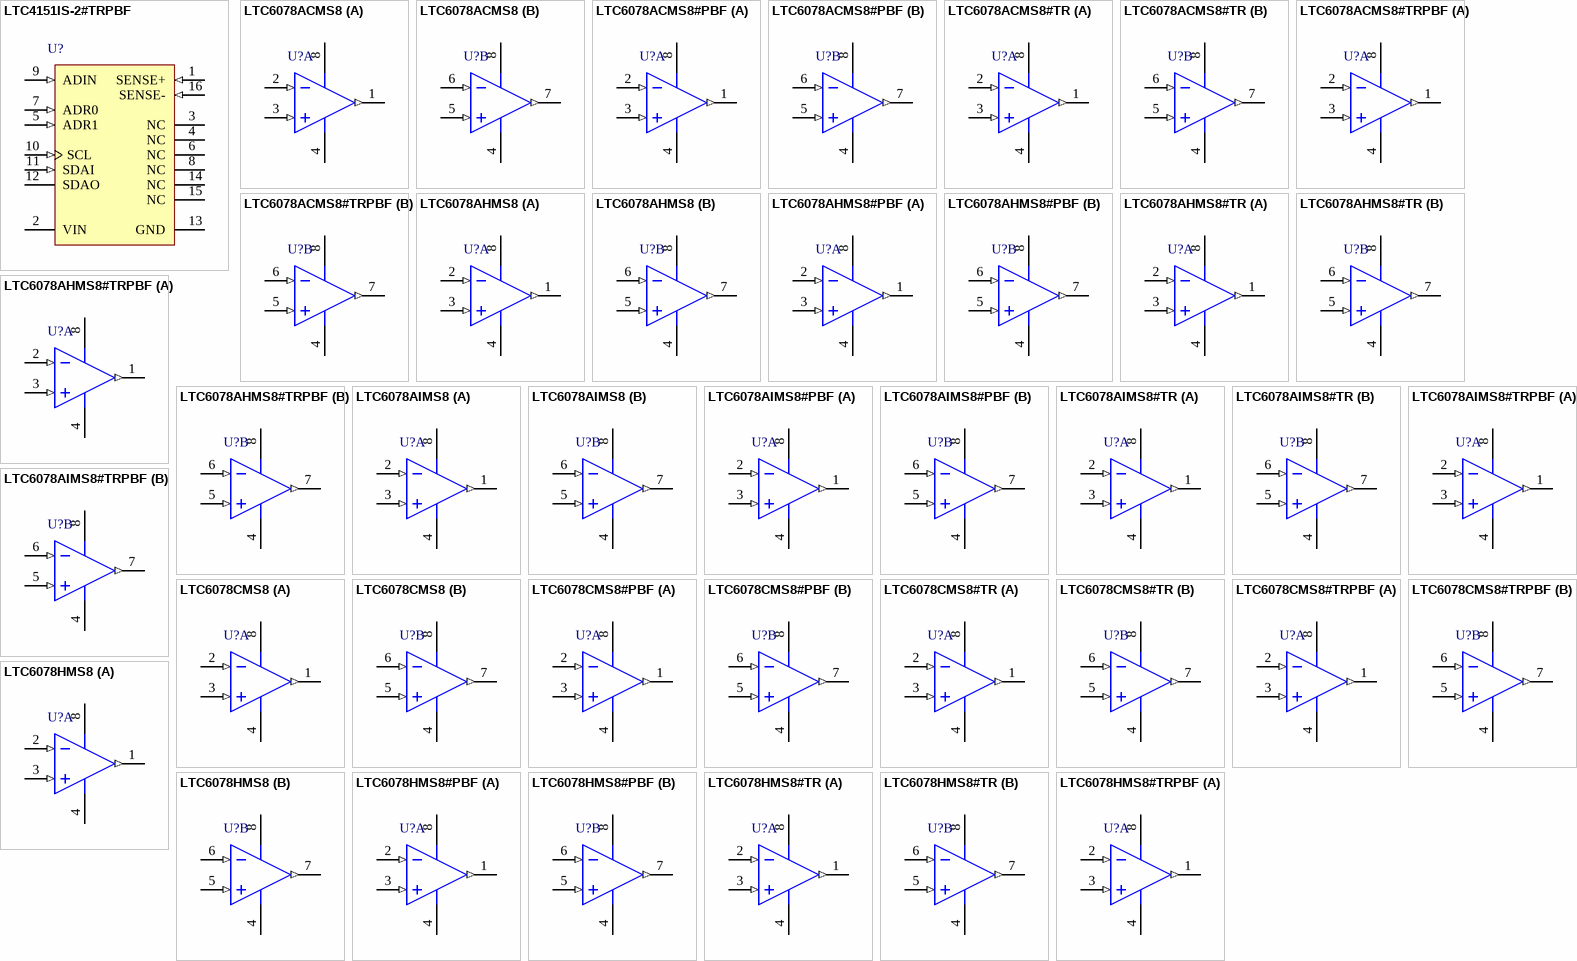
[diagram p50: symbols LTC4151IS-2#TRPBF to LTC6078HMS8#TRPBF]

## LTC4151IS-2#TRPBF
designator U?
Single Channel, High Voltage I2C Current and Voltage Monitor Operational Amplifier, 7 to 80 V, 16-Pin SOP (S-16), Industrial, Pb-Free, Reel; Linear Technology Part Number: LTC4151; Manufacturer: Linear Technology; PartNumber: LTC4151IS-2#TRPBF; Channels (#): 1; Is (mA) Typical: 1.2; Vs Max (V): 80; Vs Min (V): 7; DatasheetVersion: Rev. D; PackageVersion: Rev G; PackageReference: LT-S-16; PackageDescription: 16-Lead Plastic Small Outline, Body 9.9 x 3.9 mm, Pitch 1.27 mm; Supplier 1: Digi-Key; Supplier Part Number 1: LTC4151IS-2#TRPBF-ND; Supplier 2: Newark; Supplier Part Number 2: 72R5708; Packing: Reel; RoHS: Pb-Free; Type: CSA; Mounting Technology: Surface Mount; ComponentLink1Description: Manufacturer URL; ComponentLink1URL: http://www.linear.com/; ComponentLink2Description: Datasheet; ComponentLink2URL: http://cds.linear.com/docs/en/datasheet/4151fd.pdf; ComponentLink3Description: Package Specification; ComponentLink3URL: http://cds.linear.com/docs/en/packaging/S16%2005-08-1610%20Rev%20G.pdf
footprint LT-S-16_N (SOP, 16-Leads, Body 9.9x3.9mm, Pitch 1.27mm, IPC Medium Density)
footprint LT-S-16_L (SOP, 16-Leads, Body 9.9x3.9mm, Pitch 1.27mm, IPC High Density)
footprint LT-S-16_M (SOP, 16-Leads, Body 9.9x3.9mm, Pitch 1.27mm, IPC Low Density)
pins: 1 SENSE+ (in) "Kelvin Sense of the VIN Pin. See Figure 10 for recommended Kelvin connection.", 2 VIN (power) "Supply Voltage Input. Accepts 7V to 80V. The voltage at this pin is monitored by the onboard ADC with a fullscale input range of 102.4V. SENSE+ must be connected to VIN for proper ADC readout.", 3 NC, 4 NC, 5 ADR1 (in) "I2C Device Address Inputs. Connecting ADR1 and ADR0 to VIN, GND or leaving the pins open configures one of nine possible addresses. See Table 1 in the Applications Information section for details.", 6 NC, 7 ADR0 (in) "I2C Device Address Inputs. Connecting ADR1 and ADR0 to VIN, GND or leaving the pins open configures one of nine possible addresses. See Table 1 in the Applications Information section for details.", 8 NC, 9 ADIN (in) "ADC Input. The onboard ADC measures voltage range between 0V and 2.048V. Tie to GND if unused.", 10 SCL (in) "This pin is driven by an open-collector output from a master controller. An external pull-up resistor or current source is required and can be placed between SCL and VIN. The voltage at SCL is internally clamped to 6V (5.5V (See Datasheet)", 11 SDAI (in) "I2C Bus Data Input. Used for shifting in address, command, data, and SDAO acknowledge bits. This pin is driven by an open-collector output from a master controller. An external pull-up resistor or current source is required (See Datasheet)", 12 SDAO (oc) "Serial Bus Data Output.Open drain output used for sending data back to the master controller or acknowledging a write operation. Normally tied to SDAI to form the SDA line. An external pull-up resistor or current source is (See Datasheet)", 13 GND (power) "Device Ground.", 14 NC, 15 NC, 16 SENSE- (in) "High Side Current Sense Input. Connect an external sense resistor between SENSE+ and SENSE-. The differential voltage between SENSE+ and SENSE- is monitored by the onboard ADC with a full-scale sense voltage of 81.92mV."

## LTC6078ACMS8
designator U?
Dual Channel, Micropower, Precision Operational Amplifier, RRIO, 0.75 MHz Typical GBW, 0.05 V/us Typical SR, 2.7 to 5.5 V, 8-Pin SOP (MS8-8), Commercial; Linear Technology Part Number: LTC6078; Manufacturer: Linear Technology; PartNumber: LTC6078ACMS8; Channels (#): 2; GBW (MHz) Typical: 0.75; Is (mA) Typical: 0.054; SR (V/us) Typical: 0.05; Vos (mV) Typical: 0.007; Vs Max (V): 5.5; Vs Min (V): 2.7; DatasheetVersion: Rev. A; PackageVersion: Rev G; PackageReference: LT-MS8-8; PackageDescription: 8-Lead Plastic Small Outline, Body 3.9 x 4.9 mm, Pitch 1.27 mm; Supplier 1: Digi-Key; Supplier Part Number 1: LTC6078ACMS8-ND; Supplier 2: Newark; Supplier Part Number 2: 56M9730; Type: VFB; Mounting Technology: Surface Mount; ComponentLink1Description: Manufacturer URL; ComponentLink1URL: http://www.linear.com/; ComponentLink2Description: Datasheet; ComponentLink2URL: http://cds.linear.com/docs/en/datasheet/60789fa.pdf; ComponentLink3Description: Package Specification; ComponentLink3URL: http://cds.linear.com/docs/en/packaging/05081610_G_SO8.pdf
footprint LT-MS8-8_N (SOP, 8-Leads, Body 3x3mm, Pitch 0.65mm, IPC Medium Density)
footprint LT-MS8-8_L (SOP, 8-Leads, Body 3x3mm, Pitch 0.65mm, IPC High Density)
footprint LT-MS8-8_M (SOP, 8-Leads, Body 3x3mm, Pitch 0.65mm, IPC Low Density)
pins on every part: 4 V- (power) "Negative Supply.", 8 V+ (power) "Positive Supply."
part A pins: 1 OUTA (out) "Amplifi er Output.", 2 -INA (in) "Inverting Input.", 3 +INA (in) "Noninverting Input."
part B pins: 5 +INB (in) "Noninverting Input.", 6 -INB (in) "Inverting Input.", 7 OUTB (out) "Amplifi er Output."